# Altium footprint library LED SMD.PcbLib: 20 footprints (part 1 of 2)
Each footprint in its own frame and in the unit in brackets; x right, y up, seen from the top. Pads: shape width x height; smd on the part's side, far side on the other; paste and mask are expansions set on the pad; w line width, h text height; cw(c..) or ccw(c..) is an arc to the next point about the centre after c.
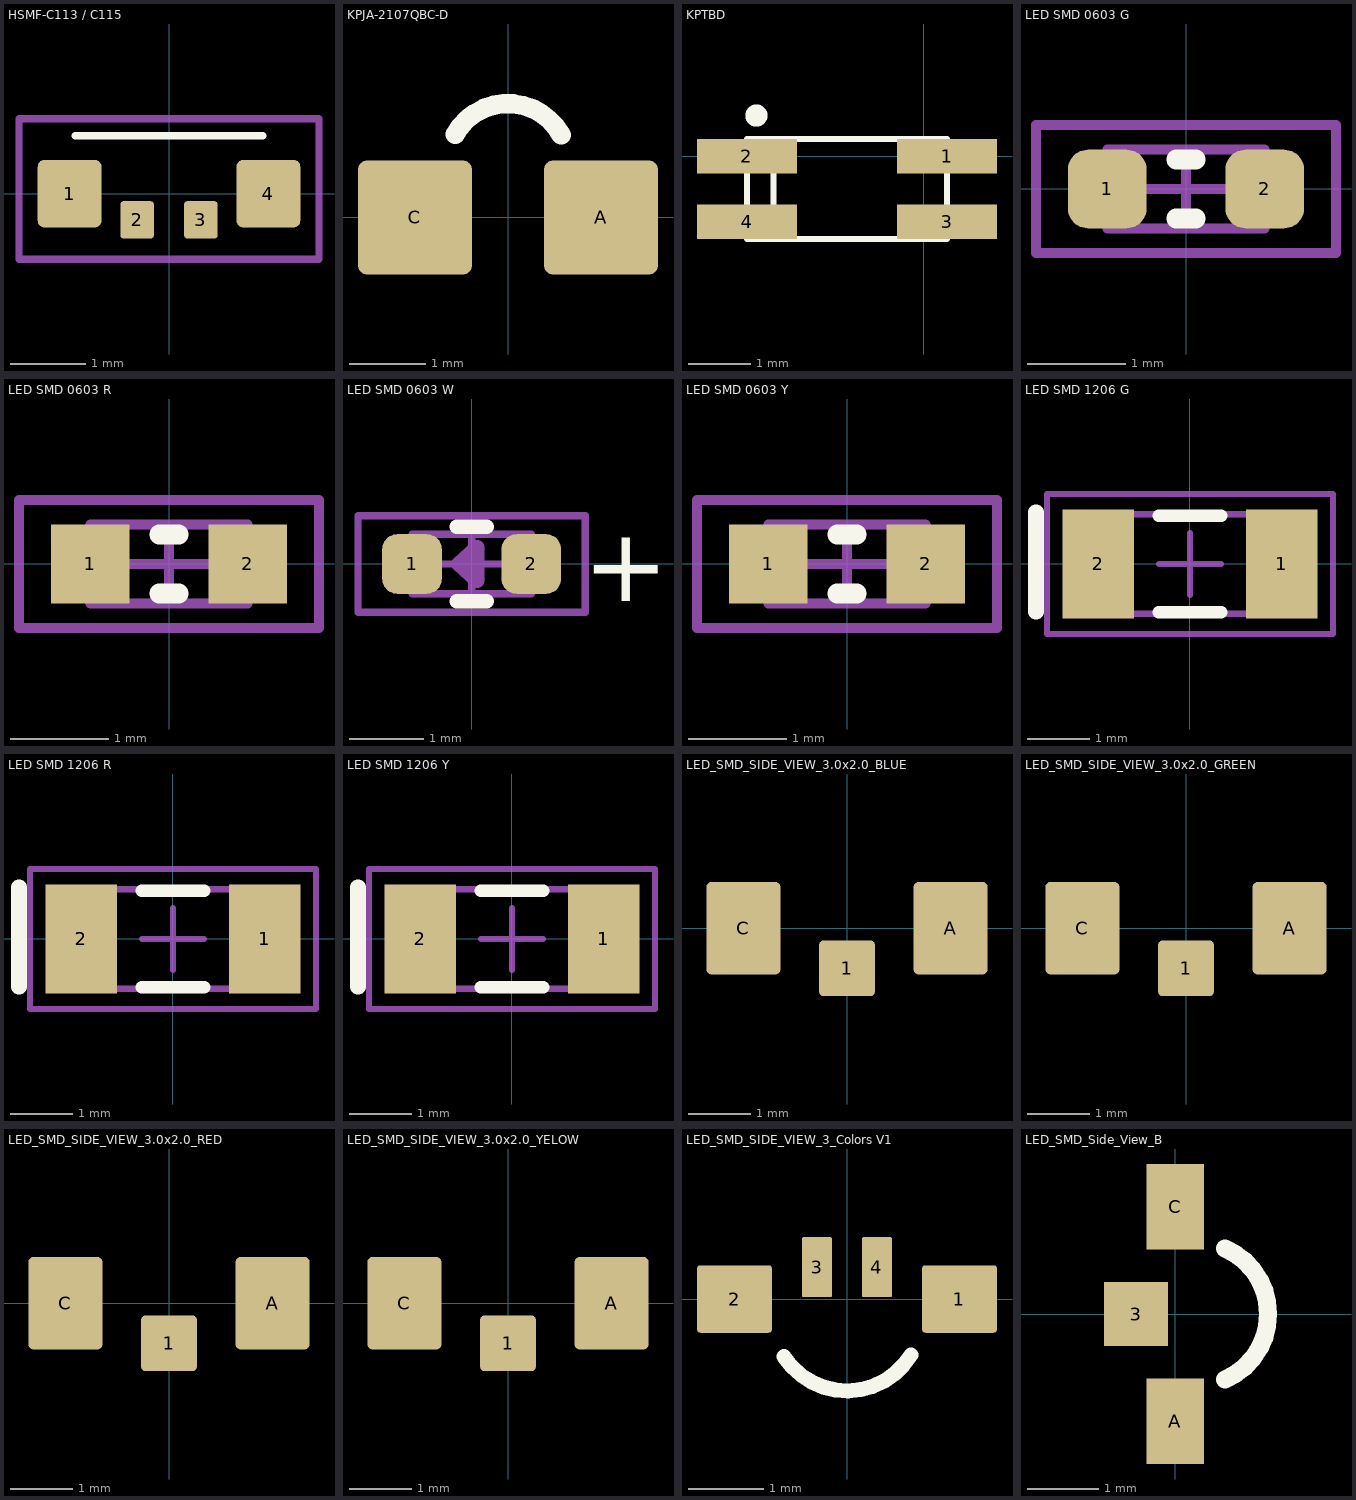
[diagram p0: the footprints below, top view; thin cyan lines are the x and y axes]

## HSMF-C113 / C115 [mm] "HSMF-C113 / C115"
height 1
pads (4):
  rrect20% 0.85x0.9 smd: 1(-1.325,0) 4(1.325,0)
  rrect20% 0.45x0.5 smd: 2(-0.425,-0.35) 3(0.425,-0.35)
Top Overlay:
  lines w0.1: -1.25,0.775 1.25,0.775
Mechanical 15:
  lines w0.1: -2,-0.875 -2,1 2,1 2,-0.875 -2,-0.875
3D body: height 1.01, standoff 0, extent -1.25,-0.225 1.25,0.775

## KPJA-2107QBC-D [mm] "KPJA-2107QBC-D"
height 0.7
pads (2):
  rrect15% 1.5x1.5 smd: A(1.225,0) C(-1.225,0)
Top Overlay:
  lines w0.254: -0.696,1.095 cw(c0,0.7) 0.702,1.085
3D body: height 1, standoff 0, extent -1.5,-0.525 1.5,1.475

## KPTBD [mm] "KPTBD-3216SURKCGKC"
pads (4):
  rect 1.6x0.55 smd: 1(0.375,0) 2(-2.825,0) 3(0.375,-1.05) 4(-2.825,-1.05)
Top Overlay:
  circle w0.254: c-2.675,0.65 r0.05
  lines w0.1: -2.4,-1.325 -2.4,0.275 ; -2.825,-1.325 -2.825,0.275 0.375,0.275 0.375,-1.325 -2.825,-1.325
3D body: height 1.8, standoff 0, extent -2.825,-1.325 0.375,0.275

## LED SMD 0603 G [mm] "LED 2-Leads, Body 1,6x0,8mm, IPC Medium Density"
height 0.75
pads (2):
  rrect50% 0.8x0.8 smd: 1(-0.8,0) 2(0.8,0)
Top Overlay:
  lines w0.2: -0.1,-0.3 0.1,-0.3 ; -0.1,0.3 0.1,0.3
Mechanical 13:
  lines w0.1: -0.8,-0.4 0.8,-0.4 0.8,0.4 -0.8,0.4 -0.8,-0.4
Mechanical 15:
  lines w0.1: -0.4,0 0.4,0 ; 0,-0.4 0,0.4 ; -1.525,-0.65 1.525,-0.65 1.525,0.65 -1.525,0.65 -1.525,-0.65
3D body: height 1.1, standoff 0, extent -0.81,-0.4 0.81,0.4

## LED SMD 0603 R [mm] "LED 2-Leads, Body 1,6x0,8mm, IPC Medium Density"
height 0.75
pads (2):
  rect 0.8x0.8 smd: 1(-0.8,0) 2(0.8,0)
Top Overlay:
  lines w0.2: -0.1,-0.3 0.1,-0.3 ; -0.1,0.3 0.1,0.3
Mechanical 13:
  lines w0.1: -0.8,-0.4 0.8,-0.4 0.8,0.4 -0.8,0.4 -0.8,-0.4
Mechanical 15:
  lines w0.1: -0.4,0 0.4,0 ; 0,-0.4 0,0.4 ; -1.525,-0.65 1.525,-0.65 1.525,0.65 -1.525,0.65 -1.525,-0.65
3D body: height 1.1, standoff 0, extent -0.81,-0.4 0.81,0.4

## LED SMD 0603 W [mm] "LED 2-Leads, Body 1,6x0,8mm, IPC Medium Density"
height 0.75
pads (2):
  rrect50% 0.8x0.8 smd: 1(-0.8,0) 2(0.8,0)
Top Overlay:
  lines w0.2: -0.2,-0.5 0.2,-0.5 ; -0.2,0.5 0.2,0.5
  text "+" at 1.5,-0.5 h1
Mechanical 13:
  lines w0.1: -0.8,-0.4 -0.8,0.4 0.8,0.4 0.8,-0.4 -0.8,-0.4
  lines w0.2: -0.175,0 0.075,-0.225 0.075,0.225 -0.175,0
Mechanical 15:
  lines w0.1: -0.4,0 0.4,0 ; 0,-0.4 0,0.4 ; -1.525,-0.65 -1.525,0.65 1.525,0.65 1.525,-0.65 -1.525,-0.65
3D body: height 0.6, standoff 0, extent -0.8,-0.4 0.8,0.4

## LED SMD 0603 Y [mm] "LED 2-Leads, Body 1,6x0,8mm, IPC Medium Density"
height 0.75
pads (2):
  rect 0.8x0.8 smd: 1(-0.8,0) 2(0.8,0)
Top Overlay:
  lines w0.2: -0.1,-0.3 0.1,-0.3 ; -0.1,0.3 0.1,0.3
Mechanical 13:
  lines w0.1: -0.8,-0.4 -0.8,0.4 0.8,0.4 0.8,-0.4 -0.8,-0.4
Mechanical 15:
  lines w0.1: -0.4,0 0.4,0 ; 0,-0.4 0,0.4 ; -1.525,-0.65 -1.525,0.65 1.525,0.65 1.525,-0.65 -1.525,-0.65
3D body: height 1.1, standoff 0, extent -0.81,-0.4 0.81,0.4

## LED SMD 1206 G [mm] "LED SMD 1206 G"
height 0.5
pads (2):
  rect 1.15x1.75 smd: 1(1.478,-0.007) 2(-1.472,-0.007)
Top Overlay:
  lines w0.2: -0.497,-0.782 0.503,-0.782 ; -0.497,0.768 0.503,0.768
  lines w0.254: -2.475,-0.775 -2.475,0.825
Mechanical 13:
  lines w0.1: -1.597,-0.807 -1.597,0.793 1.603,0.793 1.603,-0.807 -1.597,-0.807
Mechanical 15:
  lines w0.1: -0.497,-0.007 0.503,-0.007 ; 0.003,-0.507 0.003,0.493 ; -2.297,-1.132 -2.297,1.118 2.303,1.118 2.303,-1.132 -2.297,-1.132
3D body: height 1.11, standoff -0.4, extent -1.575,-0.8 1.625,0.8

## LED SMD 1206 R [mm] "LED SMD 1206 R"
height 0.5
pads (2):
  rect 1.15x1.75 smd: 1(1.478,-0.007) 2(-1.472,-0.007)
Top Overlay:
  lines w0.2: -0.497,-0.782 0.503,-0.782 ; -0.497,0.768 0.503,0.768
  lines w0.254: -2.475,-0.775 -2.475,0.825
Mechanical 13:
  lines w0.1: -1.597,-0.807 1.603,-0.807 1.603,0.793 -1.597,0.793 -1.597,-0.807
Mechanical 15:
  lines w0.1: -0.497,-0.007 0.503,-0.007 ; 0.003,-0.507 0.003,0.493 ; -2.297,-1.132 2.303,-1.132 2.303,1.118 -2.297,1.118 -2.297,-1.132
3D body: height 1.11, standoff -0.4, extent -1.575,-0.8 1.625,0.8

## LED SMD 1206 Y [mm] "LED SMD 1206 Y"
height 0.5
pads (2):
  rect 1.15x1.75 smd: 1(1.478,-0.007) 2(-1.472,-0.007)
Top Overlay:
  lines w0.2: -0.497,-0.782 0.503,-0.782 ; -0.497,0.768 0.503,0.768
  lines w0.254: -2.475,-0.775 -2.475,0.825
Mechanical 13:
  lines w0.1: -1.597,-0.807 1.603,-0.807 1.603,0.793 -1.597,0.793 -1.597,-0.807
Mechanical 15:
  lines w0.1: -0.497,-0.007 0.503,-0.007 ; 0.003,-0.507 0.003,0.493 ; -2.297,-1.132 2.303,-1.132 2.303,1.118 -2.297,1.118 -2.297,-1.132
3D body: height 1.11, standoff -0.4, extent -1.576,-0.787 1.624,0.813

## LED_SMD_SIDE_VIEW_3.0x2.0_BLUE [mm] "LED_SMD_SIDE_VIEW_3.0x2.0_BLUE"
height 0.7
pads (3):
  rrect15% 0.9x0.9 smd: 1(0,-0.65)
  rrect15% 1.2x1.5 smd: A(1.675,0) C(-1.675,0)
3D body: height 1, standoff 0, extent -1.5,-0.475 1.5,1.525

## LED_SMD_SIDE_VIEW_3.0x2.0_GREEN [mm] "LED_SMD_SIDE_VIEW_3.0x2.0_GREEN"
height 0.7
pads (3):
  rrect15% 0.9x0.9 smd: 1(0,-0.65)
  rrect15% 1.2x1.5 smd: A(1.675,0) C(-1.675,0)
3D body: height 1, standoff 0, extent -1.5,-0.475 1.5,1.525

## LED_SMD_SIDE_VIEW_3.0x2.0_RED [mm] "LED_SMD_SIDE_VIEW_3.0x2.0_RED"
height 0.7
pads (3):
  rrect15% 0.9x0.9 smd: 1(0,-0.65)
  rrect15% 1.2x1.5 smd: A(1.675,0) C(-1.675,0)
3D body: height 1, standoff 0, extent -1.5,-0.475 1.5,1.525

## LED_SMD_SIDE_VIEW_3.0x2.0_YELOW [mm] "LED_SMD_SIDE_VIEW_3.0x2.0_YELOW"
height 0.7
pads (3):
  rrect15% 0.9x0.9 smd: 1(0,-0.65)
  rrect15% 1.2x1.5 smd: A(1.675,0) C(-1.675,0)
3D body: height 1, standoff 0, extent -1.5,-0.475 1.5,1.525

## LED_SMD_SIDE_VIEW_3_Colors V1 [mm] "LED_SMD_SIDE_VIEW_3_Colors V1"
height 1
pads (4):
  rrect10% 1x0.9 smd: 1(1.5,0) 2(-1.5,0)
  rrect10% 0.4x0.8 smd: 3(-0.4,0.425) 4(0.4,0.425)
Top Overlay:
  lines w0.2: -0.84,-0.768 ccw(c0,-0.225) 0.853,-0.746
3D body: height 1, standoff 0, extent -1.5,-1.225 1.5,0.275

## LED_SMD_Side_View_B [mm] "LED_SMD_Side_View_B 3.2x1.5"
height 1
pads (3):
  rect 0.9x0.9 smd: 3(-0.55,0)
  rect 0.8x1.2 smd: A(0,-1.5) C(0,1.5)
Top Overlay:
  lines w0.254: 0.697,-0.918 ccw(c0.3,0) 0.697,0.918
3D body: height 1, standoff 0, extent -0.25,-1.6 1.25,1.6